# Altium schematic symbol library AT24C32.SchLib: 1 symbol
Pins are listed as number, name and electrical type; pins without a type are passive.

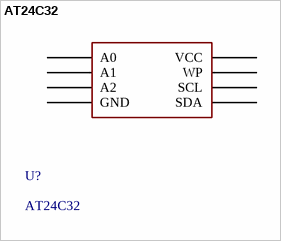
[diagram p0: symbol AT24C32]

## AT24C32
designator U?
footprint SOP65P490X110-8BN (SOP, 0.65mm pitch; 8 pin,3.00mm W X 3.00mm L X 1.10mm H body, IPC Medium Density)
pins: 1 A0, 2 A1, 3 A2, 4 GND, 5 SDA, 6 SCL, 7 WP, 8 VCC